# Altium schematic symbol library C_ALU_TH.SchLib: 1 symbol
Pins are listed as number, name and electrical type; pins without a type are passive.

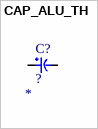
[diagram p0: symbol CAP_ALU_TH]

## CAP_ALU_TH
designator C?, comment ?
Aluminum Electrolytic Capacitors - Through Hold ROHS; Manufacturer: *; Manufacturer Part: *; Value: ?; Voltage: *
footprint CAP AL TH D10 L5 H12.5
footprint CAP AL TH D10 L5 H14.5
footprint CAP AL TH D10 L5 H17.5
footprint CAP AL TH D10 L5 H22
footprint CAP AL TH D10 L5 H30
footprint CAP AL TH D12.5 L5 H14
footprint CAP AL TH D12.5 L5 H15
footprint CAP AL TH D12.5 L5 H16.5
footprint CAP AL TH D12.5 L5 H17.5
footprint CAP AL TH D12.5 L5 H20
footprint CAP AL TH D12.5 L5 H21.5
footprint CAP AL TH D12.5 L5 H22
footprint CAP AL TH D12.5 L5 H25
footprint CAP AL TH D12.5 L5 H26.5
footprint CAP AL TH D12.5 L5 H27
footprint CAP AL TH D12.5 L5 H35.5
footprint CAP AL TH D16 L7.5 H16.5
footprint CAP AL TH D16 L7.5 H20
footprint CAP AL TH D16 L7.5 H22
footprint CAP AL TH D16 L7.5 H26.5
footprint CAP AL TH D16 L7.5 H27
footprint CAP AL TH D16 L7.5 H33.5
footprint CAP AL TH D16 L7.5 H37
footprint CAP AL TH D22 L10 H14.5
footprint CAP AL TH D22 L10 H33
footprint CAP AL TH D22 L10 H43
footprint CAP AL TH D22 L10 H53
footprint CAP AL TH D25 L12.5 H14.5
footprint CAP AL TH D25 L12.5 H32
footprint CAP AL TH D25 L12.5 H42
footprint CAP AL TH D25 L12.5 H52
footprint CAP AL TH D8 L3.5 H12.5
pins: 1, 2